# Altium schematic symbol library LAN Transceivers.SchLib: 1 symbol
Pins are listed as number, name and electrical type; pins without a type are passive.

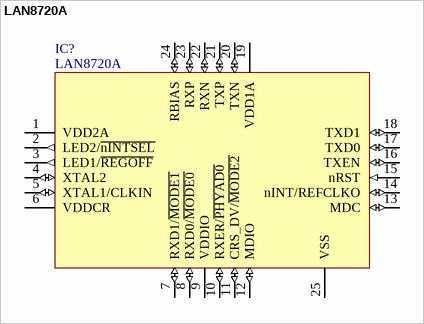
[diagram p0: symbol LAN8720A]

## LAN8720A
designator IC?
footprint 24-pin QFN (4x4mm) (QFN, 24-Leads, Body 4,1x4,1mm (max), Pitch 0,50mm, IPC Medium Density)
pins: 1 VDD2A (power), 2 LED2/~{nINTSEL} (out), 3 LED1/~{REGOFF} (out), 4 XTAL2 (io), 5 XTAL1/CLKIN (io), 6 VDDCR (power), 7 RXD1/~{MODE1} (io), 8 RXD0/~{MODE0} (io), 9 VDDIO (power), 10 RXER/~{PHYAD0} (io), 11 CRS_DV/~{MODE2} (io), 12 MDIO (io), 13 MDC (io), 14 nINT/REFCLKO (io), 15 nRST (in), 16 TXEN (io), 17 TXD0 (io), 18 TXD1 (io), 19 VDD1A (power), 20 TXN (io), 21 TXP (io), 22 RXN (io), 23 RXP (io), 24 RBIAS (io), 25 VSS (power)